# EAGLE library part MEGAWING_DUAL_FULL (library Papilio)
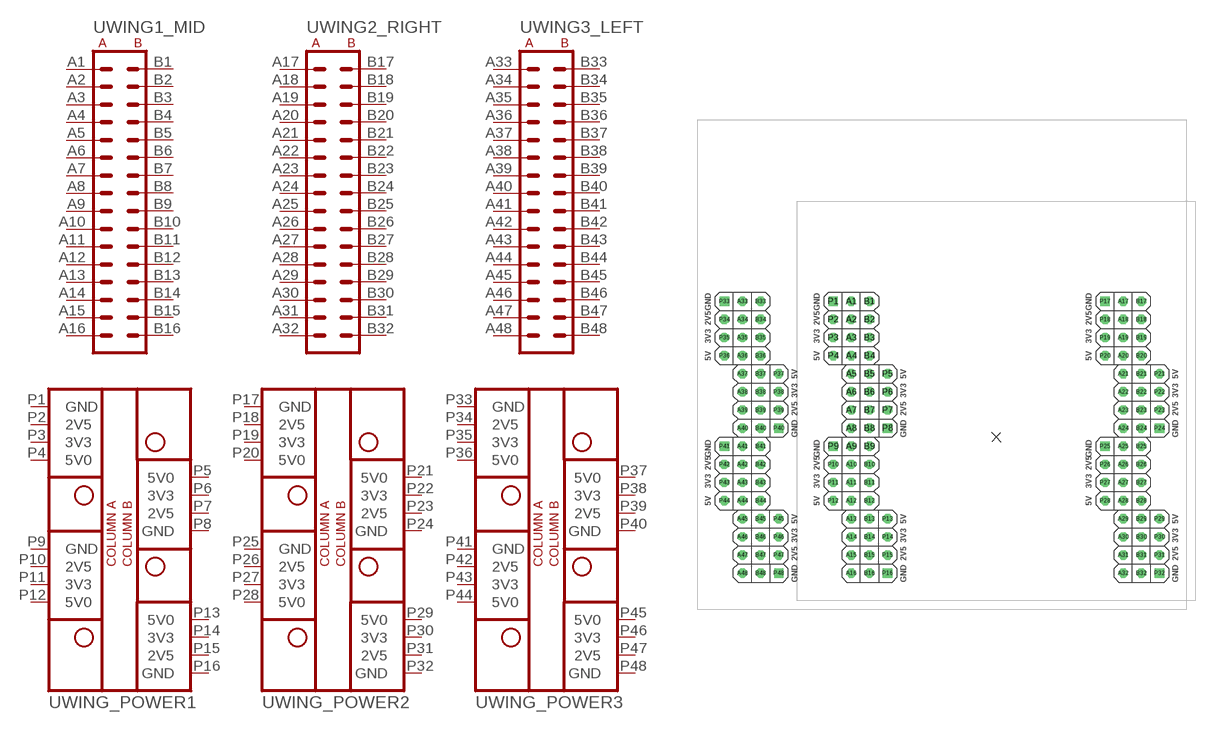
[diagram p2: symbol with the pads of MEGAWING_DUAL_NOHOLES; footprint MEGAWING_DUAL_NOHOLES]

Designator prefix -; gates WING1_MID=WING32_IO WING2_RIGHT=WING32_IO WING3_LEFT=WING32_IO WING_POWER1=WING32_POWER WING_POWER2=WING32_POWER WING_POWER3=WING32_POWER

## MEGAWING_DUAL_FULL  [MEGAWING_DUAL_NOHOLES]
A1  WING1_MID:A1
A2  WING1_MID:A2
A3  WING1_MID:A3
A4  WING1_MID:A4
A5  WING1_MID:A5
A6  WING1_MID:A6
A7  WING1_MID:A7
A8  WING1_MID:A8
A9  WING1_MID:A9
A10  WING1_MID:A10
A11  WING1_MID:A11
A12  WING1_MID:A12
A13  WING1_MID:A13
A14  WING1_MID:A14
A15  WING1_MID:A15
A16  WING1_MID:A16
A17  WING2_RIGHT:A1
A18  WING2_RIGHT:A2
A19  WING2_RIGHT:A3
A20  WING2_RIGHT:A4
A21  WING2_RIGHT:A5
A22  WING2_RIGHT:A6
A23  WING2_RIGHT:A7
A24  WING2_RIGHT:A8
A25  WING2_RIGHT:A9
A26  WING2_RIGHT:A10
A27  WING2_RIGHT:A11
A28  WING2_RIGHT:A12
A29  WING2_RIGHT:A13
A30  WING2_RIGHT:A14
A31  WING2_RIGHT:A15
A32  WING2_RIGHT:A16
A33  WING3_LEFT:A1
A34  WING3_LEFT:A2
A35  WING3_LEFT:A3
A36  WING3_LEFT:A4
A37  WING3_LEFT:A5
A38  WING3_LEFT:A6
A39  WING3_LEFT:A7
A40  WING3_LEFT:A8
A41  WING3_LEFT:A9
A42  WING3_LEFT:A10
A43  WING3_LEFT:A11
A44  WING3_LEFT:A12
A45  WING3_LEFT:A13
A46  WING3_LEFT:A14
A47  WING3_LEFT:A15
A48  WING3_LEFT:A16
B1  WING1_MID:B1
B2  WING1_MID:B2
B3  WING1_MID:B3
B4  WING1_MID:B4
B5  WING1_MID:B5
B6  WING1_MID:B6
B7  WING1_MID:B7
B8  WING1_MID:B8
B9  WING1_MID:B9
B10  WING1_MID:B10
B11  WING1_MID:B11
B12  WING1_MID:B12
B13  WING1_MID:B13
B14  WING1_MID:B14
B15  WING1_MID:B15
B16  WING1_MID:B16
B17  WING2_RIGHT:B1
B18  WING2_RIGHT:B2
B19  WING2_RIGHT:B3
B20  WING2_RIGHT:B4
B21  WING2_RIGHT:B5
B22  WING2_RIGHT:B6
B23  WING2_RIGHT:B7
B24  WING2_RIGHT:B8
B25  WING2_RIGHT:B9
B26  WING2_RIGHT:B10
B27  WING2_RIGHT:B11
B28  WING2_RIGHT:B12
B29  WING2_RIGHT:B13
B30  WING2_RIGHT:B14
B31  WING2_RIGHT:B15
B32  WING2_RIGHT:B16
B33  WING3_LEFT:B1
B34  WING3_LEFT:B2
B35  WING3_LEFT:B3
B36  WING3_LEFT:B4
B37  WING3_LEFT:B5
B38  WING3_LEFT:B6
B39  WING3_LEFT:B7
B40  WING3_LEFT:B8
B41  WING3_LEFT:B9
B42  WING3_LEFT:B10
B43  WING3_LEFT:B11
B44  WING3_LEFT:B12
B45  WING3_LEFT:B13
B46  WING3_LEFT:B14
B47  WING3_LEFT:B15
B48  WING3_LEFT:B16
P1  WING_POWER1:GND  pwr
P2  WING_POWER1:2V5  pas
P3  WING_POWER1:3V3  pas
P4  WING_POWER1:5V0  pas
P5  WING_POWER1:5V0  pas
P6  WING_POWER1:3V3  pas
P7  WING_POWER1:2V5  pas
P8  WING_POWER1:GND  pwr
P9  WING_POWER1:GND  pwr
P10  WING_POWER1:2V5  pas
P11  WING_POWER1:3V3  pas
P12  WING_POWER1:5V0  pas
P13  WING_POWER1:5V0  pas
P14  WING_POWER1:3V3  pas
P15  WING_POWER1:2V5  pas
P16  WING_POWER1:GND  pwr
P17  WING_POWER2:GND  pwr
P18  WING_POWER2:2V5  pas
P19  WING_POWER2:3V3  pas
P20  WING_POWER2:5V0  pas
P21  WING_POWER2:5V0  pas
P22  WING_POWER2:3V3  pas
P23  WING_POWER2:2V5  pas
P24  WING_POWER2:GND  pwr
P25  WING_POWER2:GND  pwr
P26  WING_POWER2:2V5  pas
P27  WING_POWER2:3V3  pas
P28  WING_POWER2:5V0  pas
P29  WING_POWER2:5V0  pas
P30  WING_POWER2:3V3  pas
P31  WING_POWER2:2V5  pas
P32  WING_POWER2:GND  pwr
P33  WING_POWER3:GND  pwr
P34  WING_POWER3:2V5  pas
P35  WING_POWER3:3V3  pas
P36  WING_POWER3:5V0  pas
P37  WING_POWER3:5V0  pas
P38  WING_POWER3:3V3  pas
P39  WING_POWER3:2V5  pas
P40  WING_POWER3:GND  pwr
P41  WING_POWER3:GND  pwr
P42  WING_POWER3:2V5  pas
P43  WING_POWER3:3V3  pas
P44  WING_POWER3:5V0  pas
P45  WING_POWER3:5V0  pas
P46  WING_POWER3:3V3  pas
P47  WING_POWER3:2V5  pas
P48  WING_POWER3:GND  pwr

## Footprint MEGAWING_DUAL_NOHOLES (pad centres in mm)
Use this footprint for compact papilio boards such as the Papilio RAM.
drill 0.8 octagon: A1 -20.32,19.05; A2 -20.32,16.51; A3 -20.32,13.97; A4 -20.32,11.43; A5 -20.32,8.89; A6 -20.32,6.35; A7 -20.32,3.81; A8 -20.32,1.27; A9 -20.32,-1.27; A10 -20.32,-3.81; A11 -20.32,-6.35; A12 -20.32,-8.89; A13 -20.32,-11.43; A14 -20.32,-13.97; A15 -20.32,-16.51; A16 -20.32,-19.05; A17 17.78,19.05; A18 17.78,16.51; A19 17.78,13.97; A20 17.78,11.43; A21 17.78,8.89; A22 17.78,6.35; A23 17.78,3.81; A24 17.78,1.27; A25 17.78,-1.27; A26 17.78,-3.81; A27 17.78,-6.35; A28 17.78,-8.89; A29 17.78,-11.43; A30 17.78,-13.97; A31 17.78,-16.51; A32 17.78,-19.05; A33 -35.56,19.05; A34 -35.56,16.51; A35 -35.56,13.97; A36 -35.56,11.43; A37 -35.56,8.89; A38 -35.56,6.35; A39 -35.56,3.81; A40 -35.56,1.27; A41 -35.56,-1.27; A42 -35.56,-3.81; A43 -35.56,-6.35; A44 -35.56,-8.89; A45 -35.56,-11.43; A46 -35.56,-13.97; A47 -35.56,-16.51; A48 -35.56,-19.05; B1 -17.78,19.05; B2 -17.78,16.51; B3 -17.78,13.97; B4 -17.78,11.43; B5 -17.78,8.89; B6 -17.78,6.35; B7 -17.78,3.81; B8 -17.78,1.27; B9 -17.78,-1.27; B10 -17.78,-3.81; B11 -17.78,-6.35; B12 -17.78,-8.89; B13 -17.78,-11.43; B14 -17.78,-13.97; B15 -17.78,-16.51; B16 -17.78,-19.05; B17 20.32,19.05; B18 20.32,16.51; B19 20.32,13.97; B20 20.32,11.43; B21 20.32,8.89; B22 20.32,6.35; B23 20.32,3.81; B24 20.32,1.27; B25 20.32,-1.27; B26 20.32,-3.81; B27 20.32,-6.35; B28 20.32,-8.89; B29 20.32,-11.43; B30 20.32,-13.97; B31 20.32,-16.51; B32 20.32,-19.05; B33 -33.02,19.05; B34 -33.02,16.51; B35 -33.02,13.97; B36 -33.02,11.43; B37 -33.02,8.89; B38 -33.02,6.35; B39 -33.02,3.81; B40 -33.02,1.27; B41 -33.02,-1.27; B42 -33.02,-3.81; B43 -33.02,-6.35; B44 -33.02,-8.89; B45 -33.02,-11.43; B46 -33.02,-13.97; B47 -33.02,-16.51; B48 -33.02,-19.05; P2 -22.86,16.51; P3 -22.86,13.97; P4 -22.86,11.43; P5 -15.24,8.89; P6 -15.24,6.35; P7 -15.24,3.81; P10 -22.86,-3.81; P11 -22.86,-6.35; P12 -22.86,-8.89; P13 -15.24,-11.43; P14 -15.24,-13.97; P15 -15.24,-16.51; P18 15.24,16.51; P19 15.24,13.97; P20 15.24,11.43; P21 22.86,8.89; P22 22.86,6.35; P23 22.86,3.81; P26 15.24,-3.81; P27 15.24,-6.35; P28 15.24,-8.89; P29 22.86,-11.43; P30 22.86,-13.97; P31 22.86,-16.51; P34 -38.1,16.51; P35 -38.1,13.97; P36 -38.1,11.43; P37 -30.48,8.89; P38 -30.48,6.35; P39 -30.48,3.81; P42 -38.1,-3.81; P43 -38.1,-6.35; P44 -38.1,-8.89; P45 -30.48,-11.43; P46 -30.48,-13.97; P47 -30.48,-16.51
drill 0.8 square: P1 -22.86,19.05; P8 -15.24,1.27; P9 -22.86,-1.27; P16 -15.24,-19.05; P17 15.24,19.05; P24 22.86,1.27; P25 15.24,-1.27; P32 22.86,-19.05; P33 -38.1,19.05; P40 -30.48,1.27; P41 -38.1,-1.27; P48 -30.48,-19.05